# Altium footprint library Components - 25.03.23 - 18.08.PcbLib: 1 footprints
Each footprint in its own frame and in the unit in brackets; x right, y up, seen from the top. Pads: shape width x height; smd on the part's side, far side on the other; paste and mask are expansions set on the pad; w line width, h text height; cw(c..) or ccw(c..) is an arc to the next point about the centre after c.
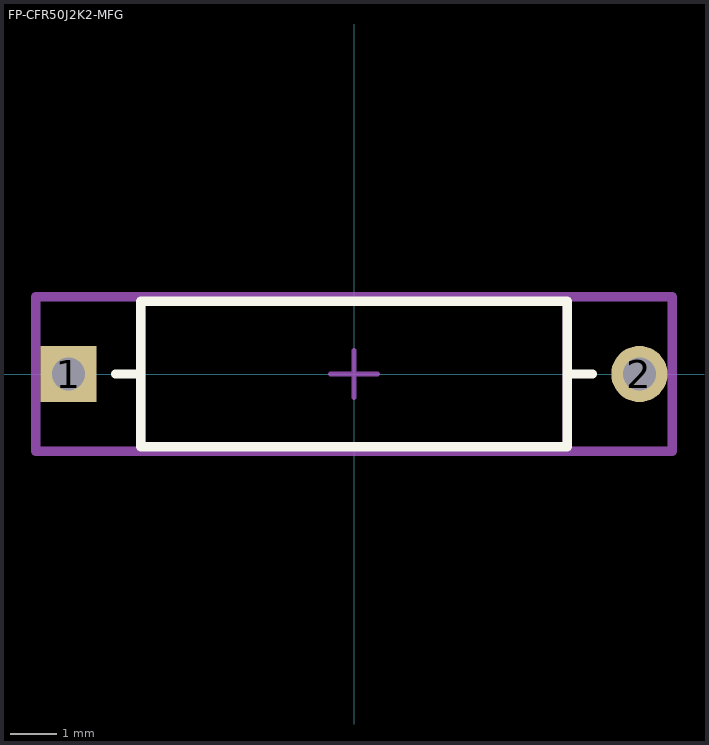
[diagram p0: the footprint, top view; thin cyan lines are the x and y axes]

## FP-CFR50J2K2-MFG [mm]
pads (2):
  rect 1.2x1.2 hole 0.7 paste-1000 mask+0: 1(-6.09,0)
  round 1.2 hole 0.7 paste-1000 mask+0: 2(6.09,0)
Top Overlay:
  lines w0.2: -5.09,0 -4.55,0 ; 4.55,0 5.09,0 ; -4.55,-1.55 -4.55,1.55 4.55,1.55 4.55,-1.55 -4.55,-1.55
Top Assembly:
  lines w0.2: -6.79,-1.65 -6.79,1.65 6.79,1.65 6.79,-1.65 -6.79,-1.65
  text ".Designator" at 0,0.188 h1
Top 3D Body:
  lines w0.2: -4.55,-1.55 -4.55,1.55 4.55,1.55 4.55,-1.55 -4.55,-1.55
Top Courtyard:
  lines w0.2: -6.79,-1.65 -6.79,1.65 6.79,1.65 6.79,-1.65 -6.79,-1.65
Top Component Center:
  lines w0.1: -0.5,0 0.5,0 ; 0,-0.5 0,0.5
3D body "Res_TE_CFR50J2K2_eec.STEP": height 0.25, standoff 0, extent -6.79,-1.65 6.79,1.65